# Altium schematic symbol library AD8603AUJ.SchLib: 1 symbol
Pins are listed as number, name and electrical type; pins without a type are passive.

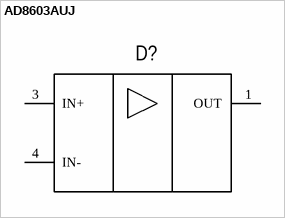
[diagram p0: symbol AD8603AUJ]

## AD8603AUJ
designator D?  (value not drawn)
pins: 1 OUT, 2 V- (power) hidden, 3 IN+, 4 IN-, 5 V+ (power) hidden
1 alternate drawing of the same symbol